# Altium footprint library MP9486AGN-Z.PcbLib: 3 footprints
Each footprint in its own frame and in the unit in brackets; x right, y up, seen from the top. Pads: shape width x height; smd on the part's side, far side on the other; paste and mask are expansions set on the pad; w line width, h text height; cw(c..) or ccw(c..) is an arc to the next point about the centre after c.
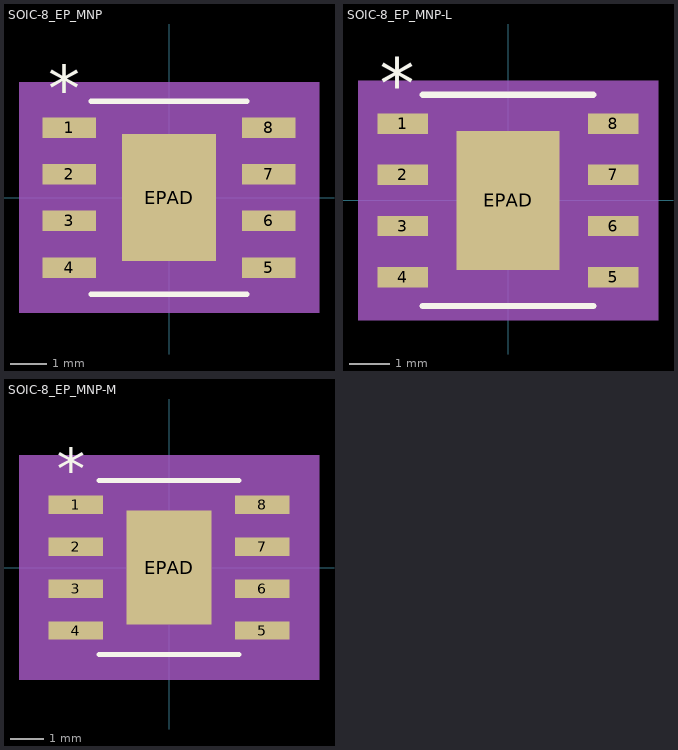
[diagram p0: the footprints below, top view; thin cyan lines are the x and y axes]

## SOIC-8_EP_MNP [mil]
pads (9):
  rect 57.28x21.97 smd paste+0 mask+0: 1(-107.14,75) 2(-107.14,25) 3(-107.14,-25) 4(-107.14,-75) 5(107.14,-75) 6(107.14,-25) 7(107.14,25) 8(107.14,75)
  rect 101x136 smd paste-67.5 mask+0: EPAD(0,0)
Top Overlay:
  lines w6: -83.5,-103.5 83.5,-103.5 ; -83.5,103.5 83.5,103.5
  text "*" at -129.64,91.97 h50
Top Paste:
  region: 46.56,-3.94 3.94,-3.94 3.94,-64.06 46.56,-64.06
  region: 46.56,64.06 3.94,64.06 3.94,3.94 46.56,3.94
  region: -3.94,-3.94 -46.56,-3.94 -46.56,-64.06 -3.94,-64.06
  region: -3.94,64.06 -46.56,64.06 -46.56,3.94 -3.94,3.94
Mechanical 5:
  region: 160.78,-123.5 -160.78,-123.5 -160.78,123.5 160.78,123.5
Mechanical 13:
  lines w0: -12,98.5 ccw(c0,98.5) 12,98.5
  lines w1: -122,-85 -78.5,-85 -78.5,-65 -122,-65 -122,-85 ; -122,-35 -78.5,-35 -78.5,-15 -122,-15 -122,-35 ; -122,15 -78.5,15 -78.5,35 -122,35 -122,15 ; -122,65 -78.5,65 -78.5,85 -122,85 -122,65 ; -78.5,-98.5 -78.5,98.5 78.5,98.5 78.5,-98.5 -78.5,-98.5 ; 78.5,-85 122,-85 122,-65 78.5,-65 78.5,-85 ; 78.5,-35 122,-35 122,-15 78.5,-15 78.5,-35 ; 78.5,15 122,15 122,35 78.5,35 78.5,15 ; 78.5,65 122,65 122,85 78.5,85 78.5,65
  text "*" at -76,45.5 h50
Mechanical 15:
  region: -88.5,-95.98 -145.78,-95.98 -145.78,95.98 -88.5,95.98 -88.5,108.5 88.5,108.5 88.5,95.98 145.78,95.98 145.78,-95.98 88.5,-95.98 88.5,-108.5 -88.5,-108.5
  lines w6: -145.78,-95.98 -88.5,-95.98 -88.5,-108.5 88.5,-108.5 88.5,-95.98 145.78,-95.98 145.78,95.98 88.5,95.98 88.5,108.5 -88.5,108.5 -88.5,95.98 -145.78,95.98 -145.78,-95.98
3D body "SOIC-8_EP_MNP.step": height 67.09, standoff -2.01, extent -122.01,-94.92 122.01,102.09
3D body "SOIC-8_EP_MNP.step": height 67.09, standoff -2.01, extent -122.01,-98.5 122.01,98.5

## SOIC-8_EP_MNP-L [mil]
pads (9):
  rect 49.41x20 smd paste+0 mask+0: 1(-103.2,75) 2(-103.2,25) 3(-103.2,-25) 4(-103.2,-75) 5(103.2,-75) 6(103.2,-25) 7(103.2,25) 8(103.2,75)
  rect 101x136 smd paste-67.5 mask+0: EPAD(0,0)
Top Overlay:
  lines w6: -83.5,-103.5 83.5,-103.5 ; -83.5,103.5 83.5,103.5
  text "*" at -125.7,90 h50
Top Paste:
  region: -3.94,64.06 -46.56,64.06 -46.56,3.94 -3.94,3.94
  region: -3.94,-3.94 -46.56,-3.94 -46.56,-64.06 -3.94,-64.06
  region: 46.56,64.06 3.94,64.06 3.94,3.94 46.56,3.94
  region: 46.56,-3.94 3.94,-3.94 3.94,-64.06 46.56,-64.06
Mechanical 5:
  region: 146.91,-117.5 -146.91,-117.5 -146.91,117.5 146.91,117.5
Mechanical 13:
  lines w0: -12,98.5 ccw(c0,98.5) 12,98.5
  lines w1: -122,-85 -122,-65 -78.5,-65 -78.5,-85 -122,-85 ; -122,-35 -122,-15 -78.5,-15 -78.5,-35 -122,-35 ; -122,15 -122,35 -78.5,35 -78.5,15 -122,15 ; -122,65 -122,85 -78.5,85 -78.5,65 -122,65 ; -78.5,-98.5 78.5,-98.5 78.5,98.5 -78.5,98.5 -78.5,-98.5 ; 78.5,-85 78.5,-65 122,-65 122,-85 78.5,-85 ; 78.5,-35 78.5,-15 122,-15 122,-35 78.5,-35 ; 78.5,15 78.5,35 122,35 122,15 78.5,15 ; 78.5,65 78.5,85 122,85 122,65 78.5,65
  text "*" at -76,45.5 h50
Mechanical 15:
  region: -82.5,-89 -131.91,-89 -131.91,89 -82.5,89 -82.5,102.5 82.5,102.5 82.5,89 131.91,89 131.91,-89 82.5,-89 82.5,-102.5 -82.5,-102.5
  lines w6: -131.91,-89 -131.91,89 -82.5,89 -82.5,102.5 82.5,102.5 82.5,89 131.91,89 131.91,-89 82.5,-89 82.5,-102.5 -82.5,-102.5 -82.5,-89 -131.91,-89
3D body "SOIC-8_EP_MNP.step": height 67.09, standoff -2.01, extent -122.01,-98.5 122.01,98.5

## SOIC-8_EP_MNP-M [mil]
pads (9):
  rect 65.15x21.97 smd paste+0 mask+0: 1(-111.08,75) 2(-111.08,25) 3(-111.08,-25) 4(-111.08,-75) 5(111.08,-75) 6(111.08,-25) 7(111.08,25) 8(111.08,75)
  rect 101x136 smd paste-67.5 mask+0: EPAD(0,0)
Top Overlay:
  lines w6: -83.5,-103.5 83.5,-103.5 ; -83.5,103.5 83.5,103.5
  text "*" at -133.58,91.97 h50
Top Paste:
  region: -3.94,64.06 -46.56,64.06 -46.56,3.94 -3.94,3.94
  region: -3.94,-3.94 -46.56,-3.94 -46.56,-64.06 -3.94,-64.06
  region: 46.56,64.06 3.94,64.06 3.94,3.94 46.56,3.94
  region: 46.56,-3.94 3.94,-3.94 3.94,-64.06 46.56,-64.06
Mechanical 5:
  region: 178.65,-133.5 -178.65,-133.5 -178.65,133.5 178.65,133.5
Mechanical 13:
  lines w0: -12,98.5 ccw(c0,98.5) 12,98.5
  lines w1: -122,-85 -122,-65 -78.5,-65 -78.5,-85 -122,-85 ; -122,-35 -122,-15 -78.5,-15 -78.5,-35 -122,-35 ; -122,15 -122,35 -78.5,35 -78.5,15 -122,15 ; -122,65 -122,85 -78.5,85 -78.5,65 -122,65 ; -78.5,-98.5 78.5,-98.5 78.5,98.5 -78.5,98.5 -78.5,-98.5 ; 78.5,-85 78.5,-65 122,-65 122,-85 78.5,-85 ; 78.5,-35 78.5,-15 122,-15 122,-35 78.5,-35 ; 78.5,15 78.5,35 122,35 122,15 78.5,15 ; 78.5,65 78.5,85 122,85 122,65 78.5,65
  text "*" at -76,45.5 h50
Mechanical 15:
  region: -98.5,-105.98 -163.65,-105.98 -163.65,105.98 -98.5,105.98 -98.5,118.5 98.5,118.5 98.5,105.98 163.65,105.98 163.65,-105.98 98.5,-105.98 98.5,-118.5 -98.5,-118.5
  lines w6: -163.65,-105.98 -163.65,105.98 -98.5,105.98 -98.5,118.5 98.5,118.5 98.5,105.98 163.65,105.98 163.65,-105.98 98.5,-105.98 98.5,-118.5 -98.5,-118.5 -98.5,-105.98 -163.65,-105.98
3D body "SOIC-8_EP_MNP.step": height 67.09, standoff -2.01, extent -122.01,-98.5 122.01,98.5